# Altium footprint library C0805-STD.PcbLib: 1 footprints
Each footprint in its own frame and in the unit in brackets; x right, y up, seen from the top. Pads: shape width x height; smd on the part's side, far side on the other; paste and mask are expansions set on the pad; w line width, h text height; cw(c..) or ccw(c..) is an arc to the next point about the centre after c.
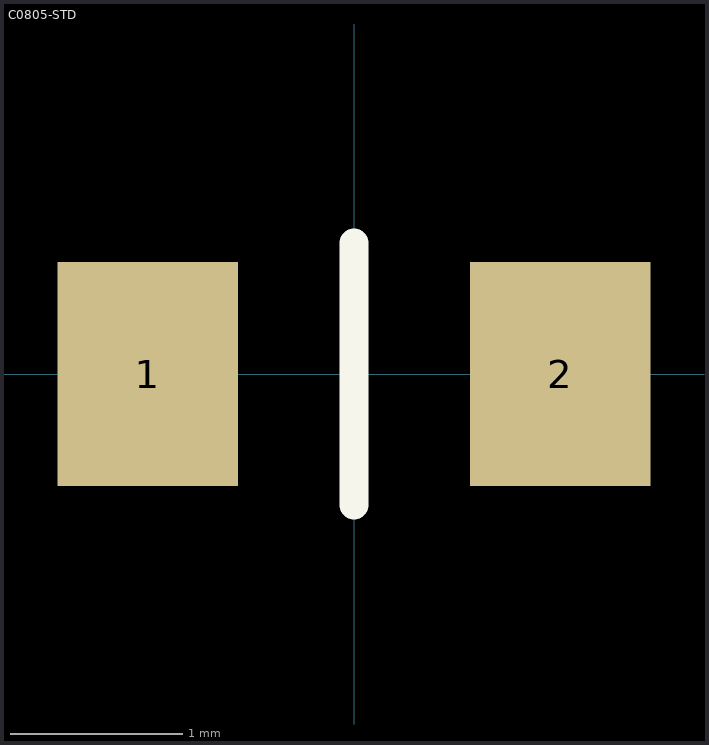
[diagram p0: the footprint, top view; thin cyan lines are the x and y axes]

## C0805-STD [mm]
pads (2):
  rect 1.05x1.3 smd: 1(-1.2,0) 2(1.2,0)
Top Overlay:
  lines w0.17: 0,-0.762 0,0.762
3D body: height 0.76, standoff -0.02, extent -1,-0.625 1,0.625